# Altium schematic symbol library schema_base_2016.SchLib: 7 symbols
Pins are listed as number, name and electrical type; pins without a type are passive.

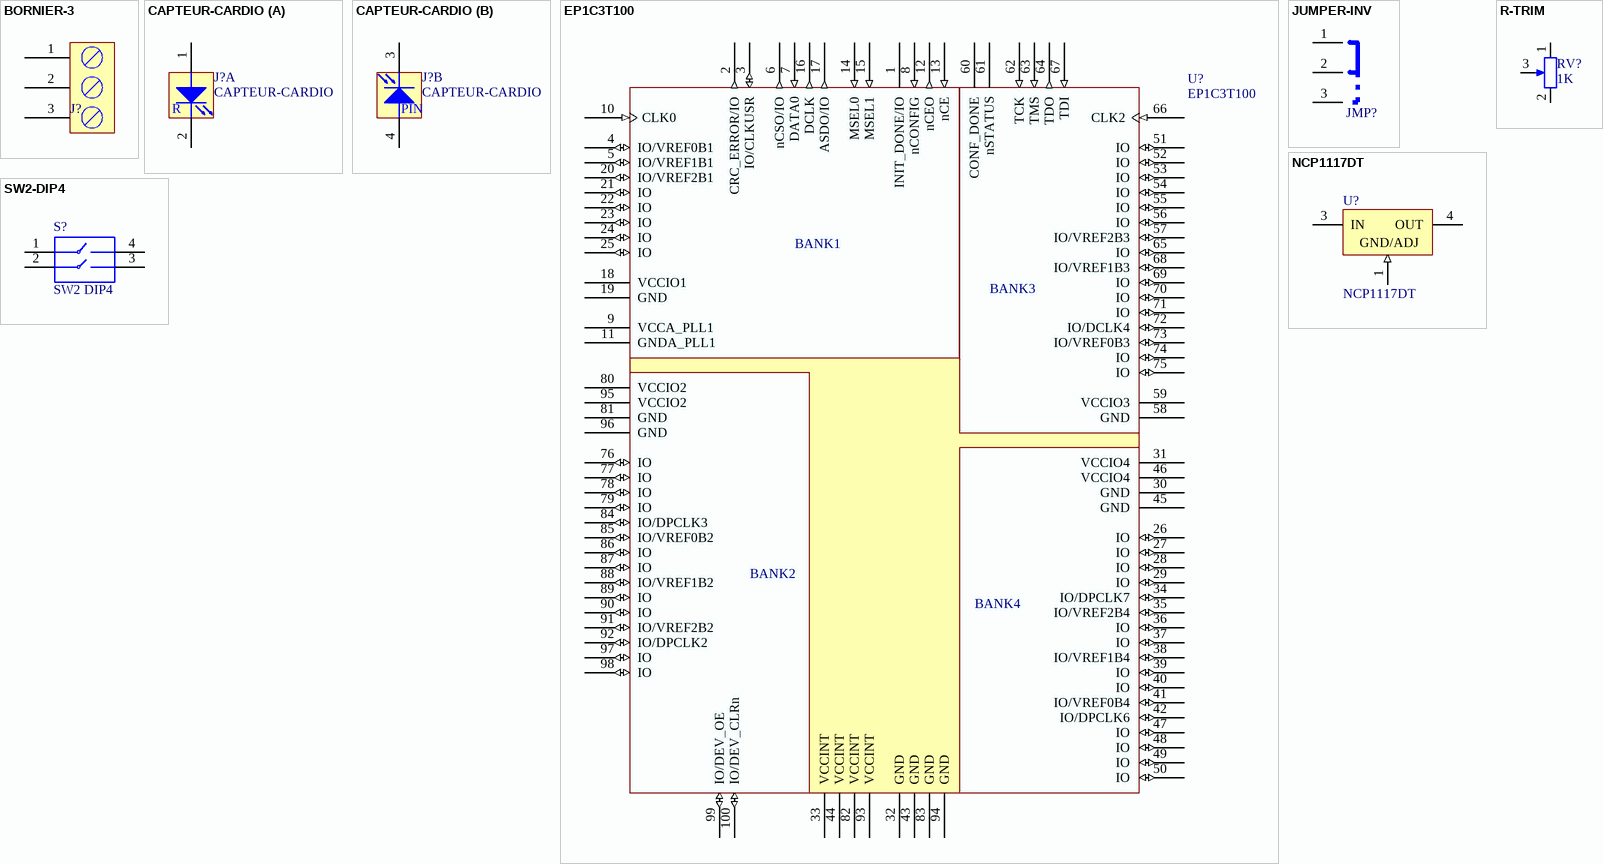
[diagram p0: symbols BORNIER-3 to SW2-DIP4]

## BORNIER-3
designator J?, comment BORNIER 3 VIS  (value not drawn)
Bornier 3 cts
footprint BORNIER-3 (Footprint not found)
footprint Model Name (Footprint not found)
pins: 1 X, 2, 3

## CAPTEUR-CARDIO
designator J?
CAPTEUR CARDIO
footprint HDR1X4
footprint KK-1X4M (Footprint not found)
part A pins: 1 A-R, 2 K-R
part B pins: 3 K-DET, 4 A-DET (power)
part A text: R
part B text: PIN

## EP1C3T100
designator U?
FPGA CYCLONE 1 TQPF100; Manufacturer: ALTERA
footprint TQFP100 (Footprint not found)
footprint SUPPORT-TQFP100 (SUPPORT SCHMARTBOARD POUR TQFP100)
pins: 1 INIT_DONE/IO (oc), 2 CRC_ERROR/IO (out), 3 IO/CLKUSR (io), 4 IO/VREF0B1 (io), 5 IO/VREF1B1 (io), 6 nCSO/IO (out), 7 DATA0 (in), 8 nCONFIG (in), 9 VCCA_PLL1, 10 CLK0 (in), 11 GNDA_PLL1, 12 nCEO (out), 13 nCE (in), 14 MSEL0 (in), 15 MSEL1 (in), 16 DCLK (out), 17 ASDO/IO (out), 18 VCCIO1 (power), 19 GND (power), 20 IO/VREF2B1 (io), 21 IO (io), 22 IO (io), 23 IO (io), 24 IO (io), 25 IO (io), 26 IO (io), 27 IO (io), 28 IO (io), 29 IO (io), 30 GND (power), 31 VCCIO4 (power), 32 GND (power), 33 VCCINT (power), 34 IO/DPCLK7 (io), 35 IO/VREF2B4 (io), 36 IO (io), 37 IO (io), 38 IO/VREF1B4 (io), 39 IO (io), 40 IO (io), 41 IO/VREF0B4 (io), 42 IO/DPCLK6 (io), 43 GND (power), 44 VCCINT (power), 45 GND (power), 46 VCCIO4 (power), 47 IO (io), 48 IO (io), 49 IO (io), 50 IO (io), 51 IO (io), 52 IO (io), 53 IO (io), 54 IO (io), 55 IO (io), 56 IO (io), 57 IO/VREF2B3 (io), 58 GND (power), 59 VCCIO3 (power), 60 CONF_DONE (oc), 61 nSTATUS (oc), 62 TCK (in), 63 TMS (in), 64 TDO (out), 65 IO (io), 66 CLK2 (in), 67 TDI (in), 68 IO/VREF1B3 (io), 69 IO (io), 70 IO (io), 71 IO (io), 72 IO/DCLK4 (io), 73 IO/VREF0B3 (io), 74 IO (io), 75 IO (io), 76 IO (io), 77 IO (io), 78 IO (io), 79 IO (io), 80 VCCIO2 (power), 81 GND (power), 82 VCCINT (power), 83 GND (power), 84 IO/DPCLK3 (io), 85 IO/VREF0B2 (io), 86 IO (io), 87 IO (io), 88 IO/VREF1B2 (io), 89 IO (io), 90 IO (io), 91 IO/VREF2B2 (io), 92 IO/DPCLK2 (io), 93 VCCINT (power), 94 GND (power), 95 VCCIO2 (power), 96 GND (power), 97 IO (io), 98 IO (io), 99 IO/DEV_OE (io), 100 IO/DEV_CLRn (io)
text: BANK1; BANK3; BANK2; BANK4

## JUMPER-INV
designator JMP?  (value not drawn)
JUMPER INVERSEUR HE14 MALE 3 cts
footprint PIN3
footprint HDR1X3
footprint JMP3-INV-0.1 (CAVALIER 3cts HE14 PAS 2.54MM)
pins: 1, 2, 3

## NCP1117DT
designator U?
Low drop out Positive Fix. or Adj. Voltage Regulator; Manufacturer: ON Semiconductor; Package Information: Latest Revision: 1997; Class I: Power Management; Note: Pin 2 is electrically connected to Pin 4 (TAB); Pin 2 is trimmed and not drawn; Class II: Voltage Regulator
footprint SIP-G3/Z11.05
footprint REG-DPAK
pins: 1 GND/ADJ (in), 3 IN (power), 4 OUT (power)

## R-TRIM
designator RV?, comment 1K
TRIMMER PRECISION POTENTIOMETER; Manufacturer: Generic Components; Class I: Passive; Set Position: 0.5; Class II: Potentiometer; Value: 1K
footprint VR2
simulation model POT (Potentiometer)
footprint TRIM-CB10H (TRIMMER CB10H series)
footprint VR-3386F-T (TRIMMER serie 3386F-T)
pins: 1 TOP, 2 BOT, 3 TAP

## SW2-DIP4
designator S?, comment SW2 DIP4
Dual Switch in DIP 4 pin; Manufacturer: Generic Components; Published: 24-Mar-1999; Revision: July-2002: Re-released for DXP Platform.; Publisher: Altium Limited
footprint DIP-4
simulation model dpsw4 (Spice Subcircuit)
pins: 1, 2, 3, 4